# EAGLE library part SO18W (library ic-packages)
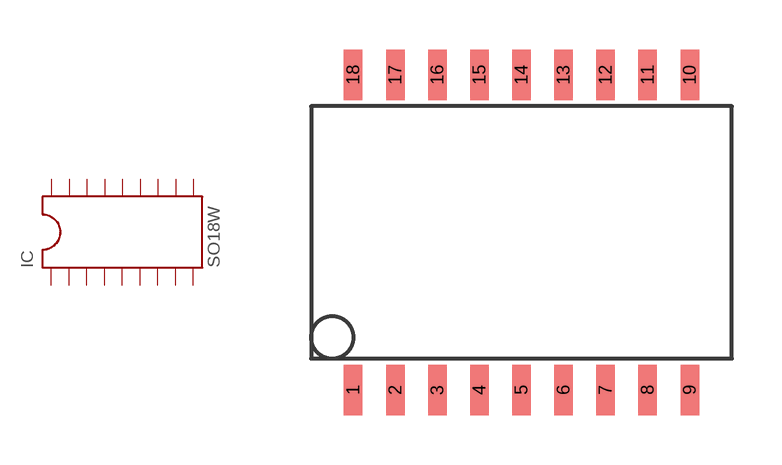
[diagram p10: symbol with the pads of SO18W; footprint SO18W]

Designator prefix IC

## SO18W  [SO18W]
1  P$1
2  P$2
3  P$3
4  P$4
5  P$5
6  P$6
7  P$7
8  P$8
9  P$9
10  P$10
11  P$11
12  P$12
13  P$13
14  P$14
15  P$15
16  P$16
17  P$17
18  P$18

## Footprint SO18W (pad centres in mm)
smd 0.559 x 1.524: 1 -5.08,-4.763; 2 -3.81,-4.763; 3 -2.54,-4.763; 4 -1.27,-4.763; 5 0,-4.763; 6 1.27,-4.763; 7 2.54,-4.763; 8 3.81,-4.763; 9 5.08,-4.763; 10 5.08,4.763; 11 3.81,4.763; 12 2.54,4.763; 13 1.27,4.763; 14 0,4.763; 15 -1.27,4.763; 16 -2.54,4.763; 17 -3.81,4.763; 18 -5.08,4.763